# Altium footprint library SIM300D.PcbLib: 1 footprints
Each footprint in its own frame and in the unit in brackets; x right, y up, seen from the top. Pads: shape width x height; smd on the part's side, far side on the other; paste and mask are expansions set on the pad; w line width, h text height; cw(c..) or ccw(c..) is an arc to the next point about the centre after c.
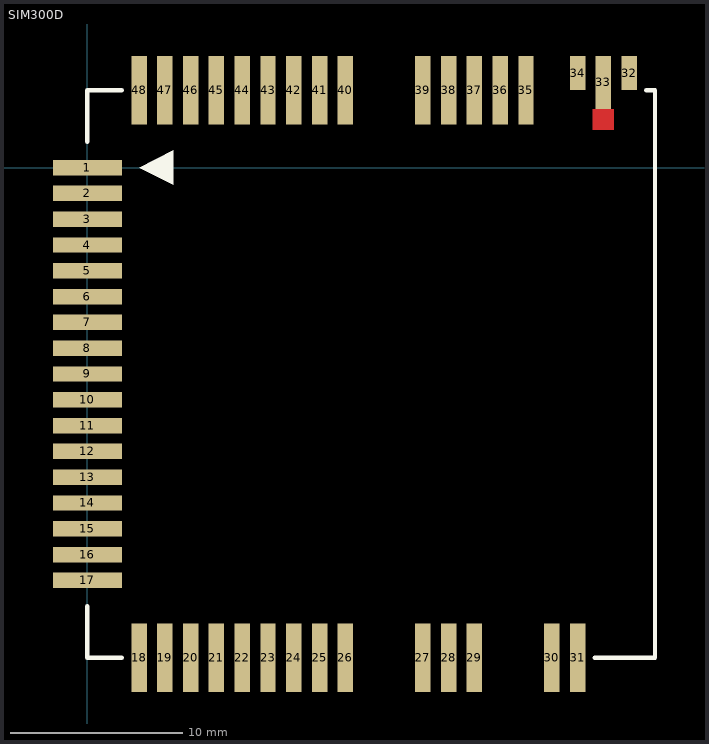
[diagram p0: the footprint, top view; thin cyan lines are the x and y axes]

## SIM300D [mm]
pads (48):
  rect 4x0.9 smd: 1(0,0) 2(0,-1.5) 3(0,-3) 4(0,-4.5) 5(0,-6) 6(0,-7.5) 7(0,-9) 8(0,-10.5) 9(0,-12) 10(0,-13.5) 11(0,-15) 12(0,-16.5) 13(0,-18) 14(0,-19.5) 15(0,-21) 16(0,-22.5) 17(0,-24)
  rect 0.9x4 smd: 18(3,-28.5) 19(4.5,-28.5) 20(6,-28.5) 21(7.5,-28.5) 22(9,-28.5) 23(10.5,-28.5) 24(12,-28.5) 25(13.5,-28.5) 26(15,-28.5) 27(19.5,-28.5) 28(21,-28.5) 29(22.5,-28.5) 30(27,-28.5) 31(28.5,-28.5) 35(25.5,4.5) 36(24,4.5) 37(22.5,4.5) 38(21,4.5) 39(19.5,4.5) 40(15,4.5) 41(13.5,4.5) 42(12,4.5) 43(10.5,4.5) 44(9,4.5) 45(7.5,4.5) 46(6,4.5) 47(4.5,4.5) 48(3,4.5)
  rect 0.9x2 smd: 32(31.5,5.5) 34(28.5,5.5)
  rect 0.9x3.1 smd: 33(29.99,4.95)
Top Layer:
  region: 29.39,2.2 30.59,2.2 30.59,3.4 29.39,3.4
Top Overlay:
  region: 5,-1 5,1 3,0
  lines w0.254: 0,-25.5 0,-28.5 2,-28.5 ; 0,1.5 0,4.5 2,4.5 ; 29.5,-28.5 33,-28.5 33,4.5 32.5,4.5